# EAGLE library part ATTINY13 (library lm3410-boost-flashlight-driver-17mm-mk-1.0)
Atmel 8-pin 1kB flash uC
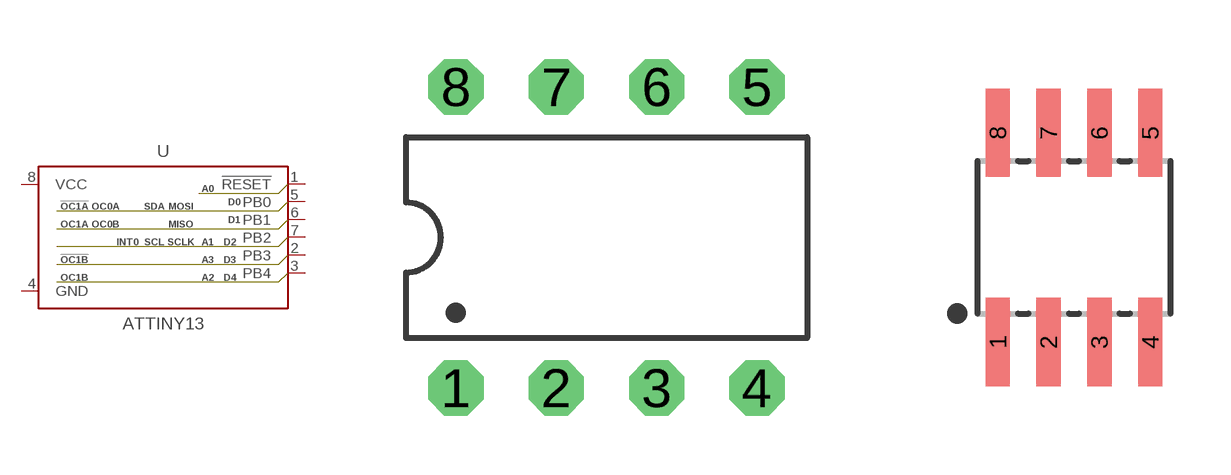
[diagram p0: symbol with the pads of DIP08; footprints DIP08, SO08]

Designator prefix U

## ATTINY13DIP  [DIP08]
1  !RESET
2  PB3
3  PB4
4  GND
5  PB0
6  PB1
7  PB2
8  VCC

## ATTINY13SOIC  [SO08]
Pads as for DIP08

## ATTINY13SOIC-NARROWPADS  [SO08-NARROWER]
Pads as for DIP08

## Footprint DIP08 (pad centres in mm)
Dual In Line
drill 0.8 pad 1.4 octagon: 1 -3.81,-3.81; 2 -1.27,-3.81; 3 1.27,-3.81; 4 3.81,-3.81; 5 3.81,3.81; 6 1.27,3.81; 7 -1.27,3.81; 8 -3.81,3.81

## Footprint SO08 (pad centres in mm)
Small Outline Package Fits JEDEC packages (narrow SOIC-8)
smd 0.61 x 2.21: 1 -1.905,-2.616; 2 -0.635,-2.616; 3 0.635,-2.616; 4 1.905,-2.616; 5 1.905,2.616; 6 0.635,2.616; 7 -0.635,2.616; 8 -1.905,2.616

## Footprint SO08-NARROWER (pad centres in mm)
Small Outline Package Fits JEDEC packages (narrow SOIC-8)
smd 0.6 x 1.2: 1 -1.905,-2.416; 2 -0.635,-2.416; 3 0.635,-2.416; 4 1.905,-2.416; 5 1.905,2.416; 6 0.635,2.416; 7 -0.635,2.416; 8 -1.905,2.416